# EAGLE library part RTL8201L (library RTL8201L)
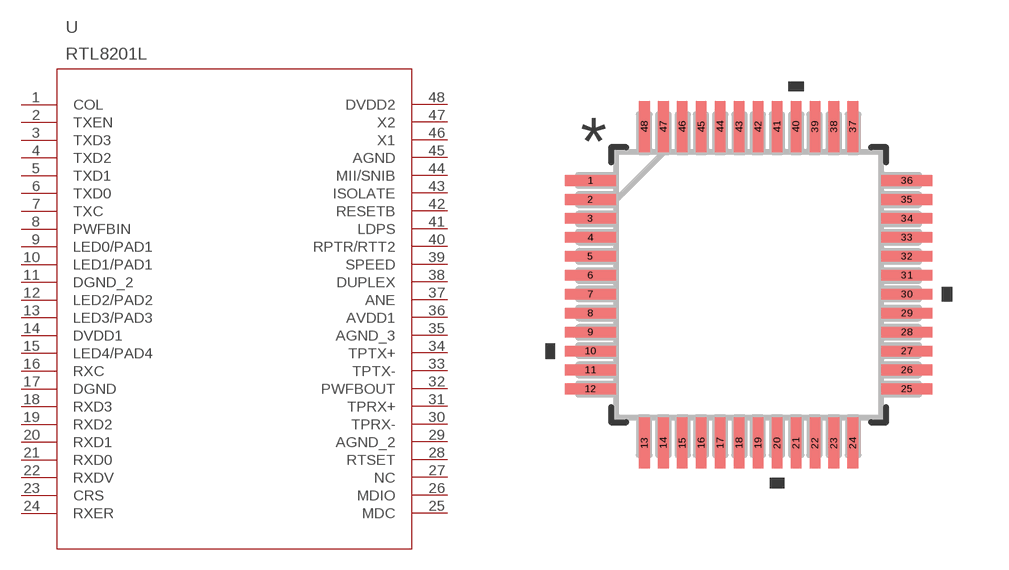
[diagram p0: symbol with the pads of LQFP48_7X7X1P4_RTK; footprint LQFP48_7X7X1P4_RTK]

Designator prefix U

## RTL8201L (COPYRIGHT: Copyright (C) 2023 Ultra Librarian. All rights reserved.; MANUFACTURER_PART_NUMBER: RTL8201L; MFR_NAME: Realtek)  [LQFP48_7X7X1P4_RTK]
1  COL  out
2  TXEN  in
3  TXD3  in
4  TXD2  in
5  TXD1  in
6  TXD0  in
7  TXC  out
8  PWFBIN  pwr
9  LED0/PAD1  out
10  LED1/PAD1  out
11  DGND_2  pas
12  LED2/PAD2  out
13  LED3/PAD3  out
14  DVDD1  pwr
15  LED4/PAD4  out
16  RXC  out
17  DGND  pas
18  RXD3  out
19  RXD2  out
20  RXD1  out
21  RXD0  out
22  RXDV  out
23  CRS
24  RXER  out
25  MDC  in
26  MDIO
27  NC  out
28  RTSET  in
29  AGND_2  pas
30  TPRX-  in
31  TPRX+  in
32  PWFBOUT  pwr
33  TPTX-  out
34  TPTX+  out
35  AGND_3  pas
36  AVDD1  pwr
37  ANE  in
38  DUPLEX  in
39  SPEED  in
40  RPTR/RTT2  in
41  LDPS  in
42  RESETB  in
43  ISOLATE  in
44  MII/SNIB  in
45  AGND  pas
46  X1  in
47  X2  out
48  DVDD2  pwr

## Footprint LQFP48_7X7X1P4_RTK (pad centres in mm)
smd 1.346 x 0.279: 1 -4.178,2.75; 2 -4.178,2.25; 3 -4.178,1.75; 4 -4.178,1.25; 5 -4.178,0.75; 6 -4.178,0.25; 7 -4.178,-0.25; 8 -4.178,-0.75; 9 -4.178,-1.25; 10 -4.178,-1.75; 11 -4.178,-2.25; 12 -4.178,-2.75; 25 4.178,-2.75; 26 4.178,-2.25; 27 4.178,-1.75; 28 4.178,-1.25; 29 4.178,-0.75; 30 4.178,-0.25; 31 4.178,0.25; 32 4.178,0.75; 33 4.178,1.25; 34 4.178,1.75; 35 4.178,2.25; 36 4.178,2.75
smd 0.279 x 1.346: 13 -2.75,-4.178; 14 -2.25,-4.178; 15 -1.75,-4.178; 16 -1.25,-4.178; 17 -0.75,-4.178; 18 -0.25,-4.178; 19 0.25,-4.178; 20 0.75,-4.178; 21 1.25,-4.178; 22 1.75,-4.178; 23 2.25,-4.178; 24 2.75,-4.178; 37 2.75,4.178; 38 2.25,4.178; 39 1.75,4.178; 40 1.25,4.178; 41 0.75,4.178; 42 0.25,4.178; 43 -0.25,4.178; 44 -0.75,4.178; 45 -1.25,4.178; 46 -1.75,4.178; 47 -2.25,4.178; 48 -2.75,4.178